# Altium footprint library ICs.PcbLib: 132 footprints (part 2 of 9)
Each footprint in its own frame and in the unit in brackets; x right, y up, seen from the top. Pads: shape width x height; smd on the part's side, far side on the other; paste and mask are expansions set on the pad; w line width, h text height; cw(c..) or ccw(c..) is an arc to the next point about the centre after c.
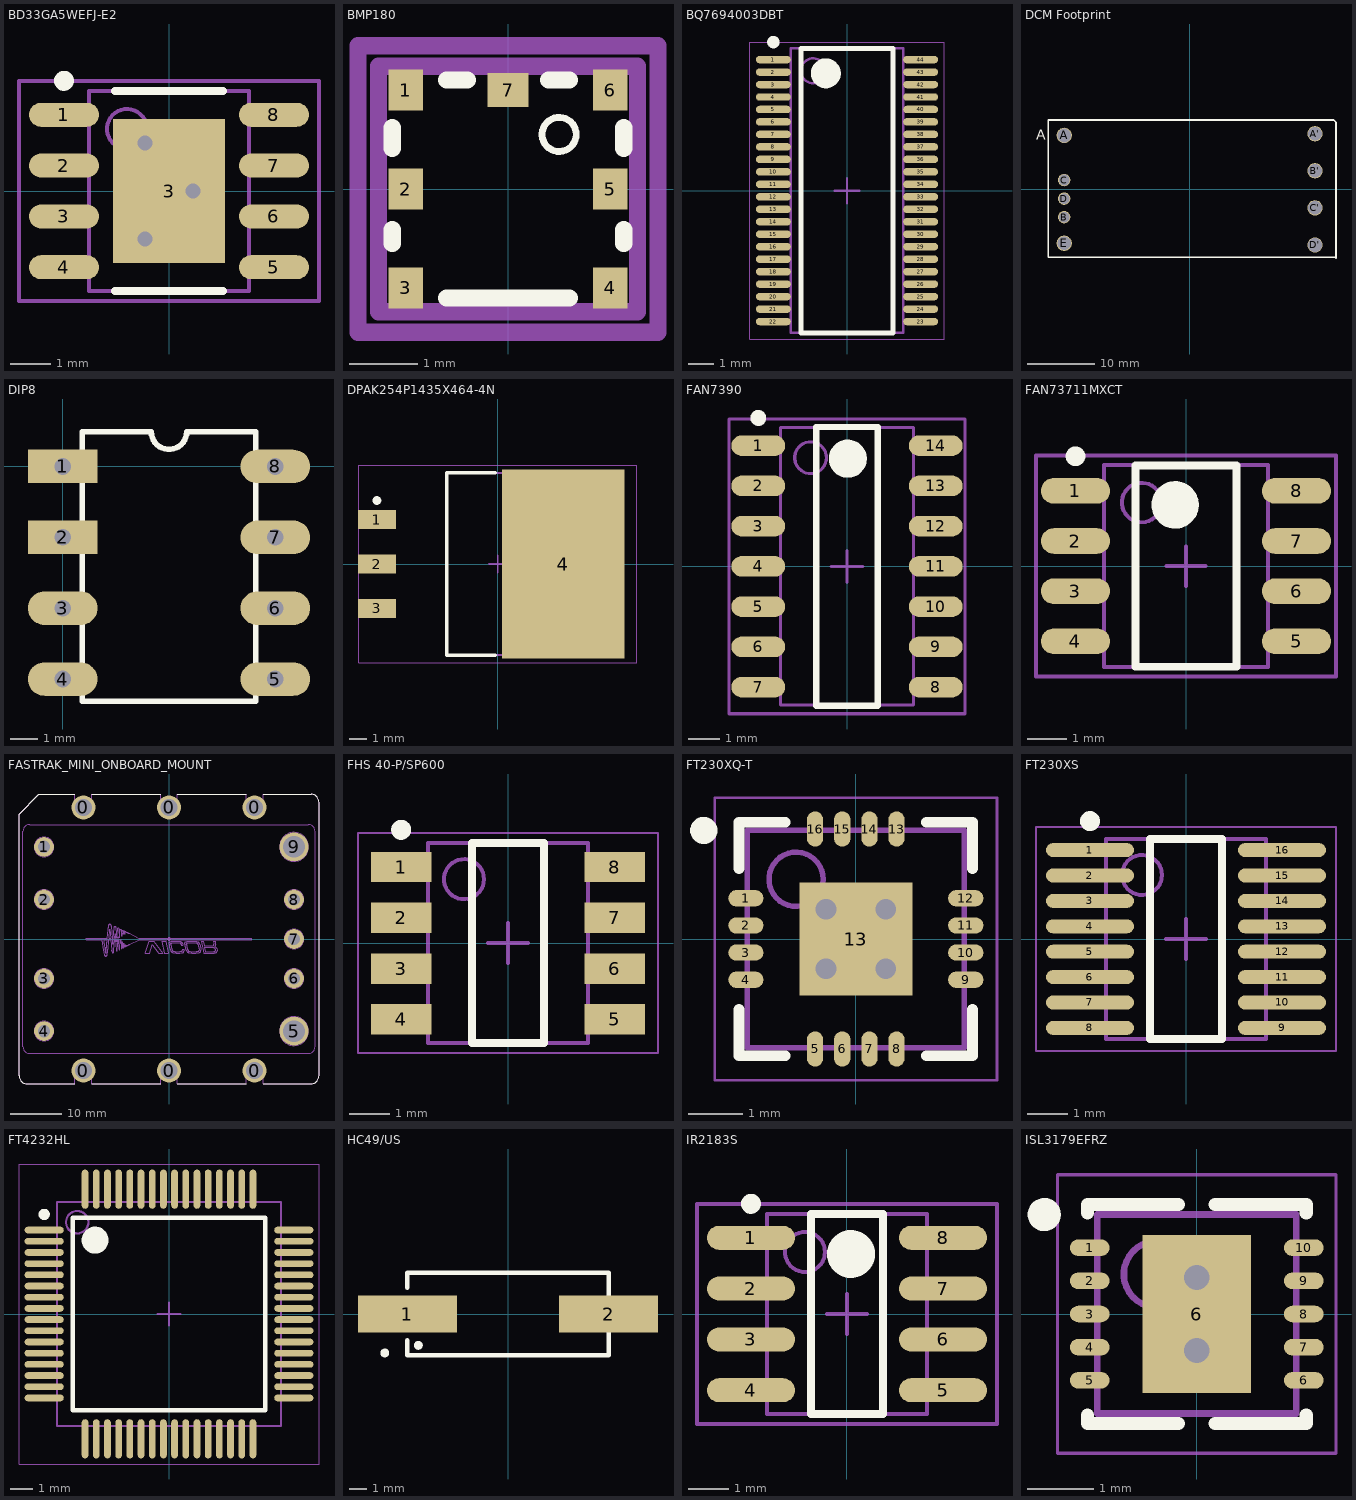
[diagram p1: the footprints below, top view; thin cyan lines are the x and y axes]

## BD33GA5WEFJ-E2 [mm] "IC REG LDO 3.3V 0.5A 8HTSOP-J"
height 1
pads (9):
  oval 1.75x0.6 smd: 1(-2.625,1.905) 2(-2.625,0.635) 3(-2.625,-0.635) 4(-2.625,-1.905) 5(2.625,-1.905) 6(2.625,-0.635) 7(2.625,0.635) 8(2.625,1.905)
  rect 2.8x3.6 smd: 3(0,0)
via -0.6,1.2 diameter 0.737 hole 0.381
via 0.6,0 diameter 0.737 hole 0.381
via -0.6,-1.2 diameter 0.737 hole 0.381
Top Overlay:
  circle w0.25: c-2.625,2.755 r0.125
  lines w0.2: -1.35,-2.5 1.35,-2.5 ; -1.35,2.5 1.35,2.5
Mechanical 13:
  circle w0.1: c-1.05,1.55 r0.5
  lines w0.1: -2,-2.5 -2,2.5 2,2.5 2,-2.5 -2,-2.5
Mechanical 15:
  lines w0.1: -0.5,0 0.5,0 ; 0,-0.5 0,0.5 ; -3.75,-2.75 -3.75,2.75 3.75,2.75 3.75,-2.75 -3.75,-2.75
3D body: height 1, standoff 0.08, extent -2,-2.5 2,2.5

## BMP180 [mm]
pads (7):
  rect 0.5x0.6 smd: 1(-1.5,1.45) 2(-1.5,0) 3(-1.5,-1.45) 4(1.5,-1.45) 5(1.5,0) 6(1.5,1.45)
  rect 0.6x0.5 smd: 7(0,1.45)
Top Overlay:
  circle w0.1: c0.75,0.8 r0.25
  lines w0.254: -1.7,-0.8 -1.7,-0.6 ; -1.7,0.6 -1.7,0.9 ; -0.9,-1.6 0.9,-1.6 ; -0.9,1.6 -0.6,1.6 ; 0.6,1.6 0.9,1.6 ; 1.7,-0.8 1.7,-0.6 ; 1.7,0.6 1.7,0.9
Mechanical 13:
  lines w0.254: -1.9,-1.8 1.9,-1.8 1.9,1.8 -1.9,1.8 -1.9,-1.8
Mechanical 15:
  lines w0.254: -2.2,-2.1 2.2,-2.1 2.2,2.1 -2.2,2.1 -2.2,-2.1
3D body: height 2, standoff 0, extent -1.9,-1.8 1.9,1.8

## BQ7694003DBT [mm] "TSSOP, 44-Leads, Body 11.15x4.40mm, Pitch 0.50mm, IPC Medium Density"
height 1.2
pads (44):
  oval 1.4x0.3 smd: 1(-2.95,5.25) 2(-2.95,4.75) 3(-2.95,4.25) 4(-2.95,3.75) 5(-2.95,3.25) 6(-2.95,2.75) 7(-2.95,2.25) 8(-2.95,1.75) 9(-2.95,1.25) 10(-2.95,0.75) 11(-2.95,0.25) 12(-2.95,-0.25) 13(-2.95,-0.75) 14(-2.95,-1.25) 15(-2.95,-1.75) 16(-2.95,-2.25) 17(-2.95,-2.75) 18(-2.95,-3.25) 19(-2.95,-3.75) 20(-2.95,-4.25) 21(-2.95,-4.75) 22(-2.95,-5.25) 23(2.95,-5.25) 24(2.95,-4.75) 25(2.95,-4.25) 26(2.95,-3.75) 27(2.95,-3.25) 28(2.95,-2.75) 29(2.95,-2.25) 30(2.95,-1.75) 31(2.95,-1.25) 32(2.95,-0.75) 33(2.95,-0.25) 34(2.95,0.25) 35(2.95,0.75) 36(2.95,1.25) 37(2.95,1.75) 38(2.95,2.25) 39(2.95,2.75) 40(2.95,3.25) 41(2.95,3.75) 42(2.95,4.25) 43(2.95,4.75) 44(2.95,5.25)
Top Overlay:
  circle w0.25: c-2.95,5.95 r0.125
  circle w0.6: c-0.85,4.7 r0.3
  lines w0.2: -1.85,-5.7 -1.85,5.7 1.85,5.7 1.85,-5.7 -1.85,-5.7
Mechanical 13:
  circle w0.1: c-1.35,4.8 r0.5
  lines w0.1: -2.25,-5.7 -2.25,5.7 2.25,5.7 2.25,-5.7 -2.25,-5.7
Mechanical 15:
  lines w0.05: -3.9,-5.95 -3.9,5.95 3.9,5.95 3.9,-5.95 -3.9,-5.95
  lines w0.1: -0.5,0 0.5,0 ; 0,-0.5 0,0.5
3D body: height 1.2, standoff 0.05, extent -2.25,-5.7 2.25,5.7

## DCM Footprint [mm] "For DC-DC Converter Module"
pads (9):
  round 2.28 hole 2.03: A(-18.6,8) A'(18.6,8.25) B'(18.6,2.75) C'(18.6,-2.75) D'(18.6,-8.25) E(-18.6,-8)
  round 1.85 hole 1.6: B(-18.6,-4.13) C(-18.6,1.38) D(-18.6,-1.38)
Top Overlay:
  lines w0.254: -20.955,10.262 -20.955,-10.058 21.59,-10.058 21.717,-10.185 21.717,9.957 21.387,10.287 -20.955,10.287
  text "A" at -22.784,7.341 h1.52
3D body "3623_dcm_thruhole.STEP": height 7.49, standoff -3.94, extent -19.358,-11.446 19.358,11.354

## DIP8 [mm]
pads (8):
  rect 2.5x1.2 hole 0.6: 1(0,0) 2(0,-2.54)
  oval 2.5x1.2 hole 0.6: 3(0,-5.08) 4(0,-7.62) 5(7.62,-7.62) 6(7.62,-5.08) 7(7.62,-2.54) 8(7.62,0)
Top Overlay:
  lines w0.2: 0.695,-8.407 0.695,1.245 3.175,1.245 ccw(c3.81,1.245) 4.445,1.245 6.925,1.245 6.925,-8.407 0.695,-8.407
3D body "INA111.stp": height 4.51, standoff -3.07, extent -0.305,-8.458 7.899,0.813

## DPAK254P1435X464-4N [mm] "D2-PAK, 4-Pads, Body 7.55x8.56mm (max), IPC Medium Density"
height 4.64
pads (4):
  rect 2.16x1.07 smd: 1(-6.9,2.54) 2(-6.9,0) 3(-6.9,-2.54)
  rect 6.99x10.8 smd: 4(3.75,0)
Top Overlay:
  circle w0.25: c-6.9,3.625 r0.125
  lines w0.2: -0.145,-5.2 -2.9,-5.2 -2.9,5.2 -0.145,5.2
Mechanical 13:
  lines w0.1: -2.9,-5.2 -2.9,5.2 5.99,5.2 5.99,-5.2 -2.9,-5.2
Mechanical 15:
  lines w0.05: -7.925,-5.65 -7.925,5.65 7.925,5.65 7.925,-5.65 -7.925,-5.65
  lines w0.1: -0.5,0 0.5,0 ; 0,-0.5 0,0.5
3D body: height 4.64, standoff 0, extent -2.9,-5.2 5.99,5.2

## FAN7390 [mm] "High-Current, High & Low-Side, Gate-Drive IC"
height 1.65
pads (14):
  oval 1.7x0.65 smd: 1(-2.8,3.81) 2(-2.8,2.54) 3(-2.8,1.27) 4(-2.8,0) 5(-2.8,-1.27) 6(-2.8,-2.54) 7(-2.8,-3.81) 8(2.8,-3.81) 9(2.8,-2.54) 10(2.8,-1.27) 11(2.8,0) 12(2.8,1.27) 13(2.8,2.54) 14(2.8,3.81)
Top Overlay:
  circle w0.25: c-2.8,4.685 r0.125
  circle w0.6: c0.025,3.4 r0.3
  lines w0.2: -0.975,-4.4 -0.975,4.4 0.975,4.4 0.975,-4.4 -0.975,-4.4
Mechanical 13:
  circle w0.1: c-1.15,3.43 r0.5
  lines w0.1: -2.1,-4.38 -2.1,4.38 2.1,4.38 2.1,-4.38 -2.1,-4.38
Mechanical 15:
  lines w0.1: -0.5,0 0.5,0 ; 0,-0.5 0,0.5 ; -3.725,-4.65 -3.725,4.65 3.725,4.65 3.725,-4.65 -3.725,-4.65
3D body: height 1.65, standoff 0.05, extent -2.1,-4.38 2.1,4.38

## FAN73711MXCT [mm] "High side FET driver"
height 1.8
pads (8):
  oval 1.75x0.65 smd: 1(-2.8,1.905) 2(-2.8,0.635) 3(-2.8,-0.635) 4(-2.8,-1.905) 5(2.8,-1.905) 6(2.8,-0.635) 7(2.8,0.635) 8(2.8,1.905)
Top Overlay:
  circle w0.25: c-2.8,2.78 r0.125
  circle w0.6: c-0.275,1.55 r0.3
  lines w0.2: -1.275,-2.55 -1.275,2.55 1.275,2.55 1.275,-2.55 -1.275,-2.55
Mechanical 13:
  circle w0.1: c-1.125,1.61 r0.5
  lines w0.1: -2.075,-2.56 -2.075,2.56 2.075,2.56 2.075,-2.56 -2.075,-2.56
Mechanical 15:
  lines w0.1: -0.5,0 0.5,0 ; 0,-0.5 0,0.5 ; -3.8,-2.8 -3.8,2.8 3.8,2.8 3.8,-2.8 -3.8,-2.8
3D body: height 1.8, standoff 0.1, extent -2.075,-2.56 2.075,2.56

## FASTRAK_MINI_ONBOARD_MOUNT [mil]
pads (15):
  round 182 hole 128.5: 0(-650,-1000) 0(-650,1000) 0(0,-1000) 0(0,1000) 0(650,-1000) 0(650,1000)
  round 150 hole 94: 1(-950,700) 2(-950,300) 3(-950,-300) 4(-950,-700) 6(950,-300) 7(950,0) 8(950,300)
  round 220 hole 164: 5(950,-700) 9(950,700)
Top Overlay:
  lines w8: -714.5,-1100 -1080,-1100 cw(c-1080,-1040) -1140,-1040 -1140,950 -990,1100 -714.5,1100 ; -585.5,-1100 -64.5,-1100 ; -585.5,1100 -64.5,1100 ; 64.5,-1100 585.5,-1100 ; 64.5,1100 585.5,1100 ; 714.5,-1100 1080,-1100 ccw(c1080,-1040) 1140,-1040 1140,1040 ccw(c1080,1040) 1080,1100 714.5,1100
Mechanical 1:
  drawing of 1242 lines, arcs and shapes, not listed
Mechanical 2:
  circle w3: c950,300 r47
  circle w3: c950,0 r47
  circle w3: c950,-300 r47
  circle w3: c950,-300 r40
  circle w3: c950,0 r40
  circle w3: c950,300 r40
  circle w3: c950,300 r75
  circle w3: c950,0 r75
  circle w3: c950,-300 r75
  circle w3: c950,-700 r110
  circle w3: c950,700 r110
  circle w3: c950,-700 r82
  circle w3: c950,700 r82
  circle w3: c950,700 r75
  circle w3: c950,-700 r75
  circle w3: c-950,700 r75
  circle w3: c-950,300 r75
  circle w3: c-950,-300 r75
  circle w3: c-950,-700 r75
  circle w3: c-950,700 r47
  circle w3: c-950,300 r47
  circle w3: c-950,-300 r47
  circle w3: c-950,-700 r47
  circle w3: c-950,-700 r40
  circle w3: c-950,-300 r40
  circle w3: c-950,300 r40
  circle w3: c-950,700 r40
Drill Drawing:
  circle w3: c-950,-700 r47
  circle w3: c-950,-300 r47
  circle w3: c-950,300 r47
  circle w3: c-950,700 r47
  circle w3: c950,700 r82
  circle w3: c950,-700 r82
  circle w3: c950,-300 r47
  circle w3: c950,0 r47
  circle w3: c950,300 r47
3D body "37206r1-VxxBxxxxxxBLP.STP": height 433.66, standoff -199.24, extent -1141.39,-1103.29 1145.45,1103.31

## FHS 40-P/SP600 [mm] "SENSOR CURRENT 100A 5V BI 8SOIC"
height 1.72
pads (8):
  rect 1.52x0.76 smd: 1(-2.67,1.905) 2(-2.67,0.635) 3(-2.67,-0.635) 4(-2.67,-1.905) 5(2.67,-1.905) 6(2.67,-0.635) 7(2.67,0.635) 8(2.67,1.905)
Top Overlay:
  circle w0.25: c-2.67,2.835 r0.125
  lines w0.2: -0.9,-2.5 0.9,-2.5 0.9,2.5 -0.9,2.5 -0.9,-2.5
Mechanical 13:
  circle w0.1: c-1.1,1.6 r0.5
  lines w0.1: -2,-2.5 2,-2.5 2,2.5 -2,2.5 -2,-2.5
Mechanical 15:
  lines w0.05: -3.75,-2.75 3.75,-2.75 3.75,2.75 -3.75,2.75 -3.75,-2.75
  lines w0.1: -0.5,0 0.5,0 ; 0,-0.5 0,0.5
3D body: height 1.72, standoff 0, extent -2,-2.5 2,2.5

## FT230XQ-T [mm] "IC USB SERIAL BASIC UART 16QFN"
height 0.8
pads (17):
  oval 0.65x0.3 smd mask+0.07: 1(-2.025,0.75) 2(-2.025,0.25) 3(-2.025,-0.25) 4(-2.025,-0.75) 9(2.025,-0.75) 10(2.025,-0.25) 11(2.025,0.25) 12(2.025,0.75)
  oval 0.3x0.65 smd mask+0.07: 5(-0.75,-2.025) 6(-0.25,-2.025) 7(0.25,-2.025) 8(0.75,-2.025) 13(0.75,2.025) 14(0.25,2.025) 15(-0.25,2.025) 16(-0.75,2.025)
  rect 2.08x2.08 smd mask+0.07: 13(0,0)
via -0.55,0.55 diameter 0.762 hole 0.381
via 0.55,0.55 diameter 0.762 hole 0.381
via -0.55,-0.55 diameter 0.762 hole 0.381
via 0.55,-0.55 diameter 0.762 hole 0.381
Top Overlay:
  circle w0.25: c-2.8,2 r0.125
  lines w0.2: -2.15,-1.3 -2.15,-2.15 -1.3,-2.15 ; -2.15,1.3 -2.15,2.15 -1.3,2.15 ; 1.3,-2.15 2.15,-2.15 2.15,-1.3 ; 1.3,2.15 2.15,2.15 2.15,1.3
Mechanical 13:
  circle w0.1: c-1.1,1.1 r0.5
  lines w0.1: -2,-2 -2,2 2,2 2,-2 -2,-2
Mechanical 15:
  lines w0.05: -2.6,-2.6 -2.6,2.6 2.6,2.6 2.6,-2.6 -2.6,-2.6
  lines w0.1: -0.5,0 0.5,0 ; 0,-0.5 0,0.5
3D body: height 0.8, standoff 0, extent -2,-2 2,2

## FT230XS [mm] "SOP, 16-Leads, Body 4.90x3.90mm, Pitch 0.64mm, IPC Medium Density"
height 1.76
pads (16):
  oval 2.2x0.35 smd: 1(-2.4,2.222) 2(-2.4,1.587) 3(-2.4,0.953) 4(-2.4,0.318) 5(-2.4,-0.318) 6(-2.4,-0.953) 7(-2.4,-1.587) 8(-2.4,-2.222) 9(2.4,-2.222) 10(2.4,-1.587) 11(2.4,-0.953) 12(2.4,-0.318) 13(2.4,0.318) 14(2.4,0.953) 15(2.4,1.587) 16(2.4,2.222)
Top Overlay:
  circle w0.25: c-2.4,2.947 r0.125
  lines w0.2: -0.9,-2.5 -0.9,2.5 0.9,2.5 0.9,-2.5 -0.9,-2.5
Mechanical 13:
  circle w0.1: c-1.1,1.6 r0.5
  lines w0.1: -2,-2.5 -2,2.5 2,2.5 2,-2.5 -2,-2.5
Mechanical 15:
  lines w0.05: -3.75,-2.8 -3.75,2.8 3.75,2.8 3.75,-2.8 -3.75,-2.8
  lines w0.1: -0.5,0 0.5,0 ; 0,-0.5 0,0.5
3D body: height 1.76, standoff 0.1, extent -2,-2.5 2,2.5

## FT4232HL [mm] "TSQFP, 64-Leads, Body 10.00x10.00mm, Pitch 0.50mm, IPC Medium Density"
height 1.6
pads (64):
  oval 1.75x0.3 smd: 1(-5.575,3.75) 2(-5.575,3.25) 3(-5.575,2.75) 4(-5.575,2.25) 5(-5.575,1.75) 6(-5.575,1.25) 7(-5.575,0.75) 8(-5.575,0.25) 9(-5.575,-0.25) 10(-5.575,-0.75) 11(-5.575,-1.25) 12(-5.575,-1.75) 13(-5.575,-2.25) 14(-5.575,-2.75) 15(-5.575,-3.25) 16(-5.575,-3.75) 33(5.575,-3.75) 34(5.575,-3.25) 35(5.575,-2.75) 36(5.575,-2.25) 37(5.575,-1.75) 38(5.575,-1.25) 39(5.575,-0.75) 40(5.575,-0.25) 41(5.575,0.25) 42(5.575,0.75) 43(5.575,1.25) 44(5.575,1.75) 45(5.575,2.25) 46(5.575,2.75) 47(5.575,3.25) 48(5.575,3.75)
  oval 0.3x1.75 smd: 17(-3.75,-5.575) 18(-3.25,-5.575) 19(-2.75,-5.575) 20(-2.25,-5.575) 21(-1.75,-5.575) 22(-1.25,-5.575) 23(-0.75,-5.575) 24(-0.25,-5.575) 25(0.25,-5.575) 26(0.75,-5.575) 27(1.25,-5.575) 28(1.75,-5.575) 29(2.25,-5.575) 30(2.75,-5.575) 31(3.25,-5.575) 32(3.75,-5.575) 49(3.75,5.575) 50(3.25,5.575) 51(2.75,5.575) 52(2.25,5.575) 53(1.75,5.575) 54(1.25,5.575) 55(0.75,5.575) 56(0.25,5.575) 57(-0.25,5.575) 58(-0.75,5.575) 59(-1.25,5.575) 60(-1.75,5.575) 61(-2.25,5.575) 62(-2.75,5.575) 63(-3.25,5.575) 64(-3.75,5.575)
Top Overlay:
  circle w0.25: c-5.575,4.45 r0.125
  circle w0.6: c-3.3,3.3 r0.3
  lines w0.2: -4.3,-4.3 -4.3,4.3 4.3,4.3 4.3,-4.3 -4.3,-4.3
Mechanical 13:
  circle w0.1: c-4.1,4.1 r0.5
  lines w0.1: -5,-5 -5,5 5,5 5,-5 -5,-5
Mechanical 15:
  lines w0.05: -6.7,-6.7 -6.7,6.7 6.7,6.7 6.7,-6.7 -6.7,-6.7
  lines w0.1: -0.5,0 0.5,0 ; 0,-0.5 0,0.5
3D body: height 1.6, standoff 0.15, extent -5,-5 5,5

## HC49/US [mm]
height 3.3
pads (2):
  rect 5.6x2.1 smd: 1(-5.7,0) 2(5.7,0)
Top Overlay:
  circle w0.25: c-6.985,-2.21 r0.125
  circle w0.25: c-5.08,-1.778 r0.125
  lines w0.254: -5.7,-1.5 -5.7,-2.35 5.7,-2.35 5.7,2.35 -5.7,2.35 -5.7,1.5
3D body "ABLS2.stp": height 3.16, standoff -0.1, extent -6.35,-2.349 6.35,2.35

## IR2183S [mm]
pads (8):
  oval 2.2x0.6 smd: 1(-2.4,1.905) 2(-2.4,0.635) 3(-2.4,-0.635) 4(-2.4,-1.905) 5(2.4,-1.905) 6(2.4,-0.635) 7(2.4,0.635) 8(2.4,1.905)
Top Overlay:
  circle w0.6: c0.1,1.5 r0.3
  circle w0.25: c-2.4,2.755 r0.125
  lines w0.2: -0.9,-2.5 0.9,-2.5 0.9,2.5 -0.9,2.5 -0.9,-2.5
Mechanical 13:
  circle w0.1: c-1.05,1.55 r0.5
  lines w0.1: -2,-2.5 2,-2.5 2,2.5 -2,2.5 -2,-2.5
Mechanical 15:
  lines w0.1: -0.5,0 0.5,0 ; 0,-0.5 0,0.5 ; -3.75,-2.75 3.75,-2.75 3.75,2.75 -3.75,2.75 -3.75,-2.75
3D body: height 1.75, standoff 0.1, extent -2,-2.5 2,2.5

## ISL3179EFRZ [mm] "TXRX ESD 3.3V RS-485/422 10-DFN"
height 0.9
pads (11):
  oval 0.6x0.25 smd mask+0.07: 1(-1.615,1) 2(-1.615,0.5) 3(-1.615,0) 4(-1.615,-0.5) 5(-1.615,-1) 6(1.615,-1) 7(1.615,-0.5) 8(1.615,0) 9(1.615,0.5) 10(1.615,1)
  rect 1.64x2.38 smd mask+0.07: 6(0,0)
via 0,0.55 diameter 0.762 hole 0.381
via 0,-0.55 diameter 0.762 hole 0.381
Top Overlay:
  circle w0.25: c-2.3,1.5 r0.125
  lines w0.2: -1.65,-1.525 -1.65,-1.65 -0.275,-1.65 ; -1.65,1.525 -1.65,1.65 -0.275,1.65 ; 0.275,-1.65 1.65,-1.65 1.65,-1.525 ; 0.275,1.65 1.65,1.65 1.65,1.525
Mechanical 13:
  circle w0.1: c-0.6,0.6 r0.5
  lines w0.1: -1.5,-1.5 -1.5,1.5 1.5,1.5 1.5,-1.5 -1.5,-1.5
Mechanical 15:
  lines w0.05: -2.1,-2.1 -2.1,2.1 2.1,2.1 2.1,-2.1 -2.1,-2.1
  lines w0.1: -0.5,0 0.5,0 ; 0,-0.5 0,0.5
3D body: height 0.9, standoff 0.05, extent -1.5,-1.5 1.5,1.5